# Altium schematic symbol library Connector.SchLib: 4 symbols
Pins are listed as number, name and electrical type; pins without a type are passive.

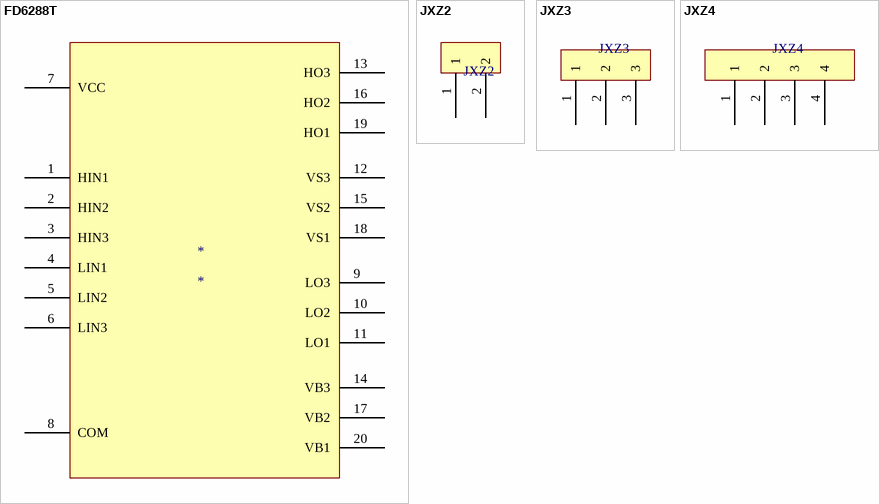
[diagram p0: symbols FD6288T to JXZ4]

## FD6288T
designator *
footprint TSSOP20 (Shrink Small Outline; 20 Leads; Body Width 4.4 mm; Pitch 0.65 mm)
pins: 1 HIN1, 2 HIN2, 3 HIN3, 4 LIN1, 5 LIN2, 6 LIN3, 7 VCC, 8 COM, 9 LO3, 10 LO2, 11 LO1, 12 VS3, 13 HO3, 14 VB3, 15 VS2, 16 HO2, 17 VB2, 18 VS1, 19 HO1, 20 VB1

## JXZ2
designator JXZ2  (value not drawn)
footprint JXZ2
pins: 1, 2

## JXZ3
designator JXZ3  (value not drawn)
footprint JXZ_3
pins: 1, 2, 3

## JXZ4
designator JXZ4  (value not drawn)
pins: 1, 2, 3, 4